# Altium schematic symbol library CERAMIC-1UF-10V-10%-X5R(0402).SchLib: 1 symbol
Pins are listed as number, name and electrical type; pins without a type are passive.

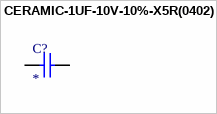
[diagram p0: symbol CERAMIC-1UF-10V-10%-X5R(0402)]

## CERAMIC-1UF-10V-10%-X5R(0402)
designator C?
1 ÂµF Â±10% 10V Ceramic Capacitor X5R 0402 (1005 Metric); MF: Yageo; MP: CC0402KRX5R6BB105; SnapEDA_Link: https://www.snapeda.com/parts/CC0402KRX5R6BB105/Yageo/view-part/?ref=snap; Package: 1005 Taiyo Yuden; Value: *; Check_prices: https://www.snapeda.com/parts/CC0402KRX5R6BB105/Yageo/view-part/?ref=eda; LCSC Part Number: C106254
footprint C0402
pins: 1, 2